# EAGLE library part AD8361 (library analog-devices)
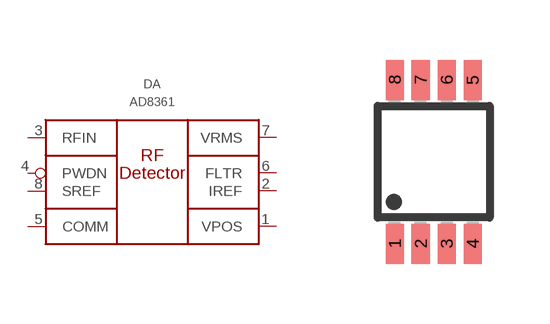
[diagram p30: symbol with the pads of MSOP8; footprint MSOP8]

Designator prefix DA

## AD8361ARM  [MSOP8]
1  VPOS  pwr
2  IREF  out
3  RFIN  in
4  PWDN  in
5  COMM  pwr
6  FLTR  pas
7  VRMS  out
8  SREF  in

## Footprint MSOP8 (pad centres in mm)
Micro Small Outline Package Grid .65mm
smd 0.45 x 1: 1 -0.975,-2.05; 2 -0.325,-2.05; 3 0.325,-2.05; 4 0.975,-2.05; 5 0.975,2.05; 6 0.325,2.05; 7 -0.325,2.05; 8 -0.975,2.05